# Altium footprint library Resistor_Film.PcbLib: 11 footprints
Each footprint in its own frame and in the unit in brackets; x right, y up, seen from the top. Pads: shape width x height; smd on the part's side, far side on the other; paste and mask are expansions set on the pad; w line width, h text height; cw(c..) or ccw(c..) is an arc to the next point about the centre after c.
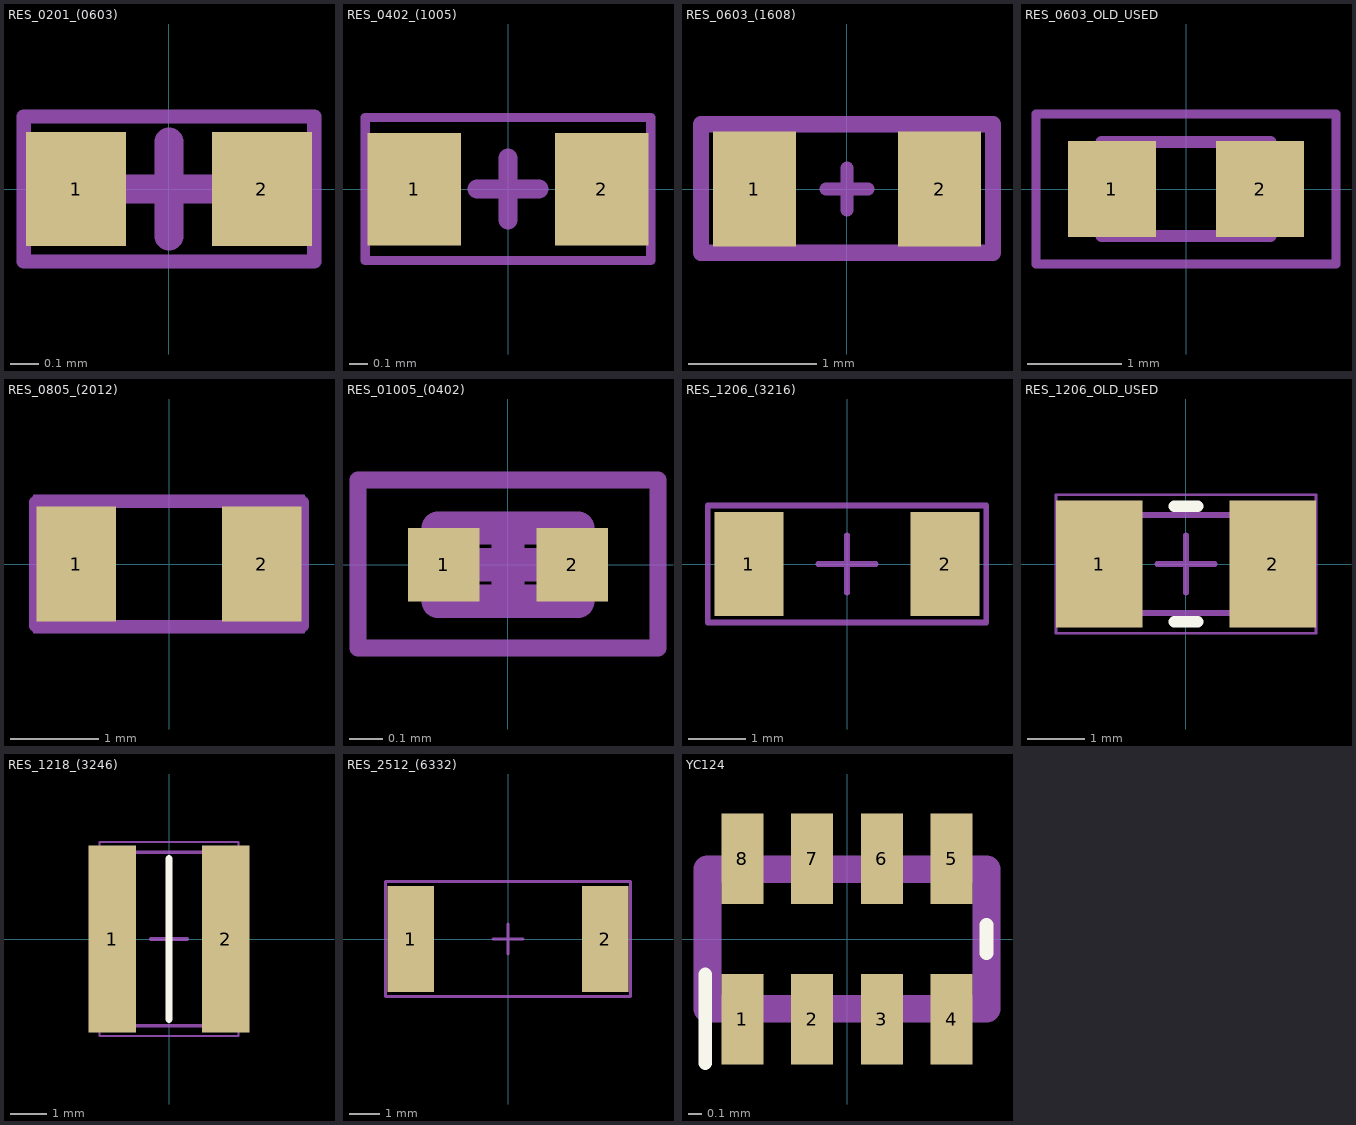
[diagram p0: the footprints below, top view; thin cyan lines are the x and y axes]

## RES_0201_(0603) [mm]
height 0.26
pads (2):
  rect 0.35x0.4 smd mask+0.051: 1(-0.325,0) 2(0.325,0)
Mechanical 13:
  lines w0.05: -0.508,-0.254 -0.508,0.254 0.508,0.254 0.508,-0.254 -0.508,-0.254
Mechanical 15:
  lines w0.05: -0.508,-0.254 -0.508,0.254 0.508,0.254 0.508,-0.254 -0.508,-0.254
  lines w0.1: -0.165,0 0.165,0 ; 0,-0.165 0,0.165
3D body "RESC0603X03L.step": height 0.26, standoff 0, extent -0.315,-0.165 0.315,0.165

## RES_0402_(1005) [mm]
height 0.26
pads (2):
  rect 0.5x0.6 smd mask+0.051: 1(-0.5,0) 2(0.5,0)
Mechanical 13:
  lines w0.05: -0.762,-0.381 -0.762,0.381 0.762,0.381 0.762,-0.381 -0.762,-0.381
Mechanical 15:
  lines w0.05: -0.762,-0.381 -0.762,0.381 0.762,0.381 0.762,-0.381 -0.762,-0.381
  lines w0.1: -0.165,0 0.165,0 ; 0,-0.165 0,0.165
3D body "RC0402JR-074K7L.step": height 0.4, standoff 0, extent -0.5,-0.25 0.5,0.25

## RES_0603_(1608) [mm]
pads (2):
  rect 0.65x0.9 smd: 1(-0.725,0) 2(0.725,0)
Mechanical 13:
  lines w0.127: -1.143,-0.5 1.143,-0.5 1.143,0.508 -1.143,0.508 -1.143,-0.5
Mechanical 15:
  lines w0.1: -0.165,0 0.165,0 ; 0,-0.165 0,0.165 ; -1.143,-0.508 -1.143,0.508 1.143,0.508 1.143,-0.508 -1.143,-0.508
3D body "ERJ-U03F1020V.STEP": height 0.45, standoff 0, extent -0.8,-0.4 0.8,0.4

## RES_0603_OLD_USED [mm]
pads (2):
  rect 0.94x1.02 smd: 1(-0.79,0) 2(0.79,0)
Mechanical 13:
  lines w0.127: -0.9,-0.5 -0.9,0.5 0.9,0.5 0.9,-0.5 -0.9,-0.5
Mechanical 15:
  lines w0.1: -1.6,-0.8 1.6,-0.8 1.6,0.8 -1.6,0.8 -1.6,-0.8
3D body "ERJ-U03F1020V.STEP": height 0.45, standoff 0, extent -0.8,-0.4 0.8,0.4

## RES_0805_(2012) [mm]
pads (2):
  rect 0.9x1.3 smd: 1(-1.05,0) 2(1.05,0)
Mechanical 13:
  lines w0.127: -1.524,-0.7 -1.524,0.7 1.524,0.7 1.524,-0.7 -1.524,-0.7
Mechanical 15:
  lines w0.05: -1.524,-0.762 -1.524,0.762 1.524,0.762 1.524,-0.762 -1.524,-0.762
3D body "step_temp.STEP": height 0.6, standoff 0, extent -1,-0.625 1,0.625

## RES_01005_(0402) [mm] "Chip Resistor, 2-Leads, Body 0.40x0.20mm, IPC High Density"
height 0.16
pads (2):
  rect 0.215x0.22 smd mask+0.05: 1(-0.192,0) 2(0.193,0)
Mechanical 13:
  lines w0.1: -0.21,-0.11 -0.21,0.11 0.21,0.11 0.21,-0.11 -0.21,-0.11
Mechanical 15:
  lines w0.05: -0.45,-0.25 -0.45,0.254 0.45,0.254 0.45,-0.25 -0.45,-0.25
  lines w0.1: -0.11,0 0.11,0 ; 0,-0.11 0,0.11
3D body "RESC0402X02L.step": height 0.16, standoff 0, extent -0.21,-0.11 0.21,0.11

## RES_1206_(3216) [mm]
pads (2):
  rect 1.2x1.8 smd: 1(-1.7,0) 2(1.7,0)
Mechanical 13:
  lines w0.1: -2.413,-1.016 2.413,-1.016 2.413,1.016 -2.413,1.016 -2.413,-1.016
Mechanical 15:
  lines w0.05: -2.413,-1.016 2.413,-1.016 2.413,1.016 -2.413,1.016 -2.413,-1.016
  lines w0.1: -0.5,0 0.5,0 ; 0,-0.5 0,0.5
3D body "RESC3116X06M.step": height 0.65, standoff 0, extent -1.6,-0.85 1.6,0.85

## RES_1206_OLD_USED [mm]
pads (2):
  rect 1.5x2.2 smd: 1(-1.5,0) 2(1.5,0)
Top Overlay:
  lines w0.2: -0.2,-1 0.2,-1 ; -0.2,1 0.2,1
Mechanical 13:
  lines w0.1: -1.6,-0.85 1.6,-0.85 1.6,0.85 -1.6,0.85 -1.6,-0.85
Mechanical 15:
  lines w0.05: -2.25,-1.2 2.25,-1.2 2.25,1.2 -2.25,1.2 -2.25,-1.2
  lines w0.1: -0.5,0 0.5,0 ; 0,-0.5 0,0.5
3D body "RESC3116X06M.step": height 0.65, standoff 0, extent -1.6,-0.85 1.6,0.85

## RES_1218_(3246) [mm]
height 0.6
pads (2):
  rect 1.3x5.1 smd: 1(-1.55,0) 2(1.55,0)
Top Overlay:
  lines w0.2: 0,-2.2 0,2.2
Mechanical 13:
  lines w0.1: -1.65,-2.375 -1.65,2.375 1.65,2.375 1.65,-2.375 -1.65,-2.375
Mechanical 15:
  lines w0.05: -1.9,-2.65 -1.9,2.65 1.9,2.65 1.9,-2.65 -1.9,-2.65
  lines w0.1: -0.5,0 0.5,0 ; 0,-0.5 0,0.5
3D body "RCL12180000Z0EK.stp": height 0.6, standoff 0, extent -1.575,-2.3 1.575,2.3

## RES_2512_(6332) [mm]
height 0.65
pads (2):
  rect 1.55x3.5 smd: 1(-3.225,0) 2(3.225,0)
Mechanical 13:
  lines w0.1: -4.064,-1.905 4.064,-1.905 4.064,1.905 -4.064,1.905 -4.064,-1.905
Mechanical 15:
  lines w0.05: -4.064,-1.905 4.064,-1.905 4.064,1.905 -4.064,1.905 -4.064,-1.905
  lines w0.1: -0.5,0 0.5,0 ; 0,-0.5 0,0.5
3D body "RESC6432X06M.step": height 0.65, standoff 0, extent -3.3,-1.715 3.3,1.715

## YC124 [mm] "Yageo Array Chip Resistor"
pads (8):
  rect 0.3x0.65 smd mask-2539.97: 1(-0.75,-0.575) 2(-0.25,-0.575) 3(0.25,-0.575) 4(0.75,-0.575) 5(0.75,0.575) 6(0.25,0.575) 7(-0.25,0.575) 8(-0.75,0.575)
Top Overlay:
  lines w0.1: -1.016,-0.889 -1.016,-0.254 ; 1,-0.1 1,0.1
Top Solder:
  region: -0.925,0.225 -0.925,0.925 -0.575,0.925 -0.575,0.225
  region: -0.425,0.225 -0.425,0.925 -0.075,0.925 -0.075,0.225
  region: 0.075,0.225 0.075,0.925 0.425,0.925 0.425,0.225
  region: 0.575,0.225 0.575,0.925 0.925,0.925 0.925,0.225
  region: 0.575,-0.925 0.575,-0.225 0.925,-0.225 0.925,-0.925
  region: 0.075,-0.925 0.075,-0.225 0.425,-0.225 0.425,-0.925
  region: -0.425,-0.925 -0.425,-0.225 -0.075,-0.225 -0.075,-0.925
  region: -0.925,-0.925 -0.925,-0.225 -0.575,-0.225 -0.575,-0.925
Mechanical 13:
  lines w0.2: -1,-0.5 -1,0.5 1,0.5 1,-0.5 -1,-0.5
Mechanical 15:
  lines w0.1: -1.016,-0.508 -1.016,0.508 1.016,0.508 1.016,-0.508 -1.016,-0.508
3D body "YC124-FR-0710KL.stp": height 0.45, standoff 0, extent -1,-0.5 1,0.5